# Altium footprint library footprints.PcbLib: 13 footprints
Each footprint in its own frame and in the unit in brackets; x right, y up, seen from the top. Pads: shape width x height; smd on the part's side, far side on the other; paste and mask are expansions set on the pad; w line width, h text height; cw(c..) or ccw(c..) is an arc to the next point about the centre after c.
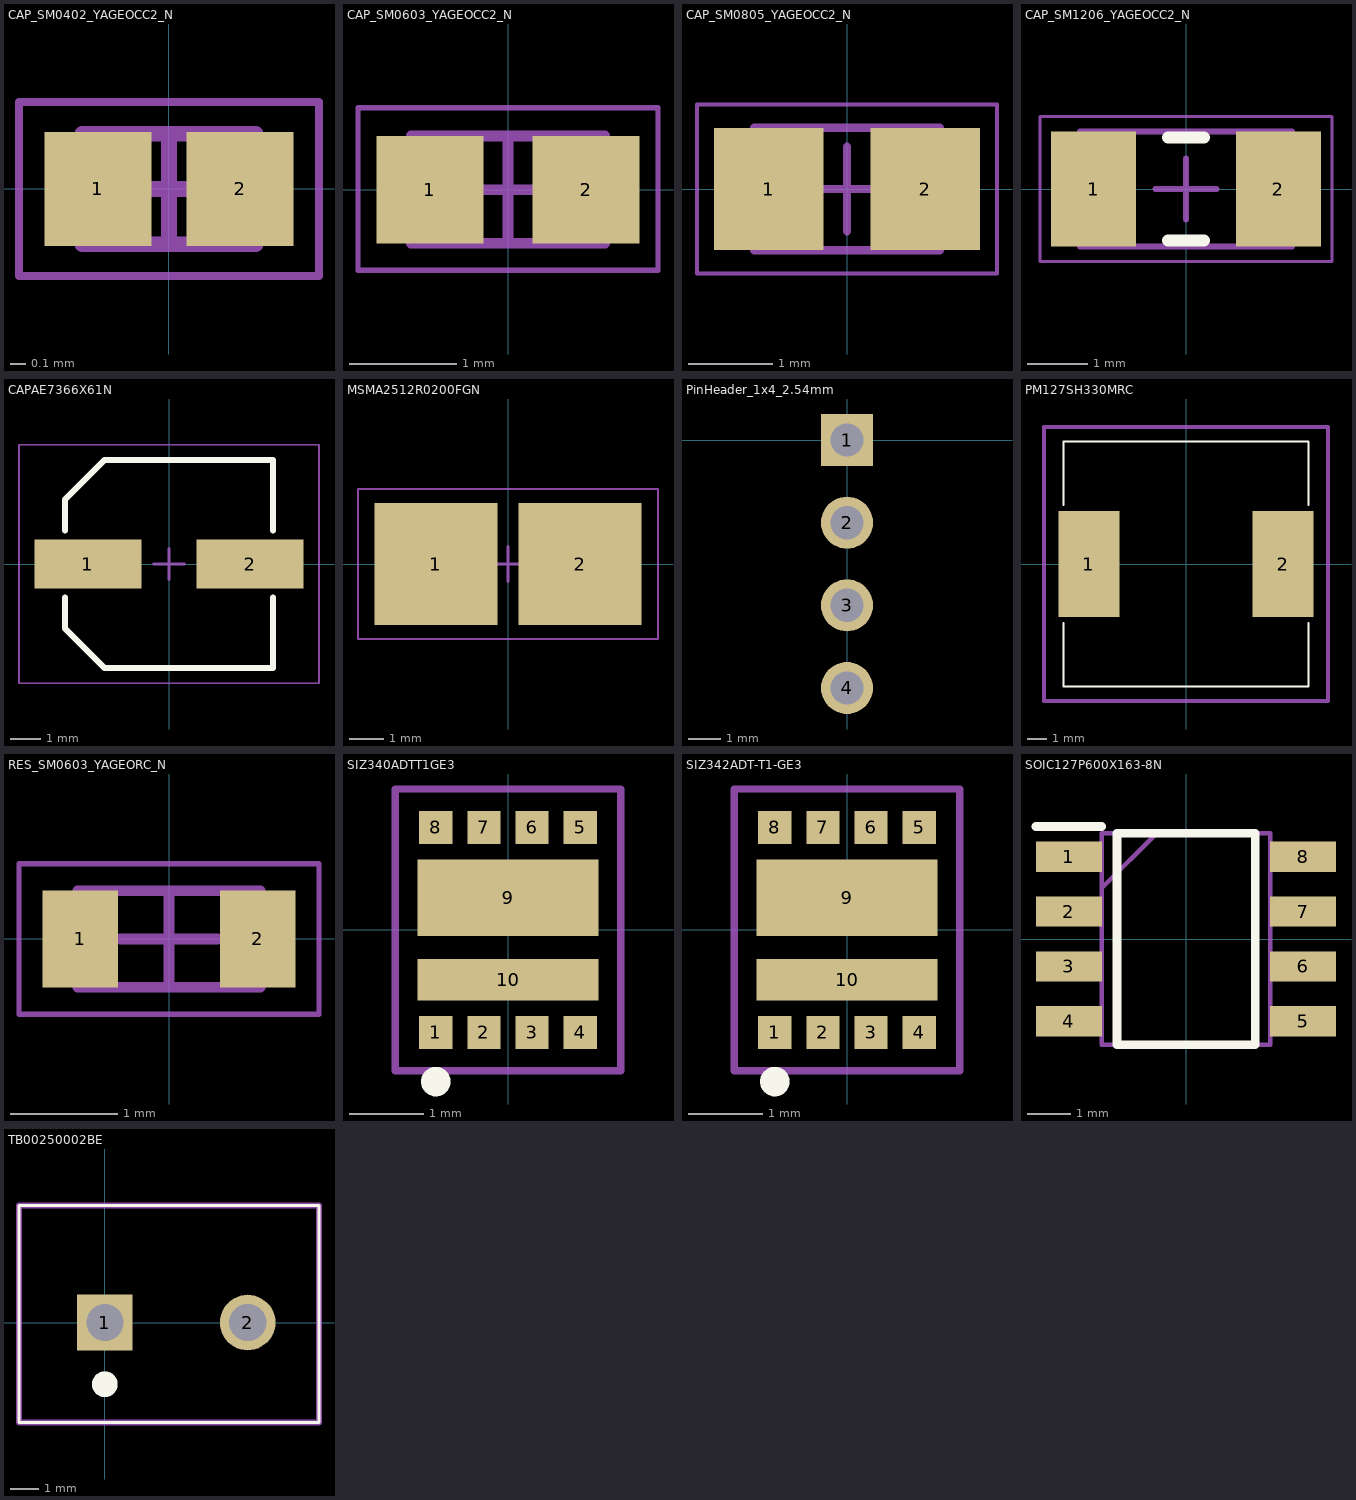
[diagram p0: the footprints below, top view; thin cyan lines are the x and y axes]

## CAP_SM0402_YAGEOCC2_N [mm] "Capacitor, Yageo CC Class2, SM0402, IPC Medium Density"
height 0.9
pads (2):
  rect 0.68x0.72 smd: 1(-0.45,0) 2(0.45,0)
Mechanical 13:
  lines w0.1: -0.55,-0.35 0.55,-0.35 0.55,0.35 -0.55,0.35 -0.55,-0.35
Mechanical 15:
  lines w0.05: -0.95,-0.55 0.95,-0.55 0.95,0.55 -0.95,0.55 -0.95,-0.55
  lines w0.1: -0.35,0 0.35,0 ; 0,-0.35 0,0.35
3D body: height 0.6, standoff 0, extent 0.3,-0.35 0.55,0.35
3D body: height 0.6, standoff 0, extent -0.55,-0.35 -0.3,0.35
3D body: height 0.6, standoff 0, extent -0.3,-0.35 0.3,0.35

## CAP_SM0603_YAGEOCC2_N [mm] "Capacitor, Yageo CC Class2, SM0603, IPC Medium Density"
height 0.9
pads (2):
  rect 1x1 smd: 1(-0.727,0) 2(0.727,0)
Mechanical 13:
  lines w0.1: -0.9,-0.5 0.9,-0.5 0.9,0.5 -0.9,0.5 -0.9,-0.5
Mechanical 15:
  lines w0.05: -1.397,-0.75 1.397,-0.75 1.397,0.762 -1.397,0.762 -1.397,-0.75
  lines w0.1: -0.5,0 0.5,0 ; 0,-0.5 0,0.5
3D body: height 0.9, standoff 0, extent 0.5,-0.5 0.9,0.5
3D body: height 0.9, standoff 0, extent -0.9,-0.5 -0.5,0.5
3D body: height 0.9, standoff 0, extent -0.5,-0.5 0.5,0.5

## CAP_SM0805_YAGEOCC2_N [mm] "Capacitor, Yageo CC Class2, SM0805, IPC Medium Density"
height 1.45
pads (2):
  rect 1.3x1.45 smd: 1(-0.927,0) 2(0.927,0)
Mechanical 13:
  lines w0.1: -1.1,-0.725 -1.1,0.725 1.1,0.725 1.1,-0.725 -1.1,-0.725
Mechanical 15:
  lines w0.05: -1.778,-1 -1.778,1 1.778,1 1.778,-1 -1.778,-1
  lines w0.1: -0.5,0 0.5,0 ; 0,-0.5 0,0.5
3D body: height 1.45, standoff 0, extent -0.6,-0.725 0.6,0.725
3D body: height 1.45, standoff 0, extent -1.1,-0.725 -0.6,0.725
3D body: height 1.45, standoff 0, extent 0.6,-0.725 1.1,0.725

## CAP_SM1206_YAGEOCC2_N [mm] "Capacitor, Yageo CC Class2, SM1206, IPC Medium Density"
height 1.8
pads (2):
  rect 1.4x1.9 smd: 1(-1.527,0) 2(1.527,0)
Top Overlay:
  lines w0.2: -0.3,-0.85 0.3,-0.85 ; -0.3,0.85 0.3,0.85
Mechanical 13:
  lines w0.1: -1.75,-0.95 -1.75,0.95 1.75,0.95 1.75,-0.95 -1.75,-0.95
Mechanical 15:
  lines w0.05: -2.413,-1.2 -2.413,1.2 2.413,1.2 2.413,-1.2 -2.413,-1.2
  lines w0.1: -0.5,0 0.5,0 ; 0,-0.5 0,0.5
3D body: height 1.8, standoff 0, extent -1.25,-0.95 1.25,0.95
3D body: height 1.8, standoff 0, extent -1.75,-0.95 -1.25,0.95
3D body: height 1.8, standoff 0, extent 1.25,-0.95 1.75,0.95

## CAPAE7366X61N [mm] "Aluminum Electrolytic Capacitor, Body 6,60x6,60x6,10mm, IPC Medium Density"
height 6.1
pads (2):
  rect 3.5x1.6 smd: 1(-2.65,0) 2(2.65,0)
Top Overlay:
  lines w0.2: -3.4,-1.1 -3.4,-2.1 -2.1,-3.4 3.4,-3.4 3.4,-1.1 ; -3.4,1.1 -3.4,2.1 -2.1,3.4 3.4,3.4 3.4,1.1
Mechanical 15:
  lines w0.05: -4.9,-3.9 -4.9,3.9 4.9,3.9 4.9,-3.9 -4.9,-3.9
  lines w0.1: -0.5,0 0.5,0 ; 0,-0.5 0,0.5
3D body "EEE-FK1E470P.stp": height 5.8, standoff 0, extent -3.683,-3.3 3.617,3.3

## MSMA2512R0200FGN [mm]
height 0.62
pads (2):
  rect 3.55x3.5 smd: 1(-2.075,0) 2(2.075,0)
Mechanical 15:
  lines w0.05: -4.318,-2.159 4.318,-2.159 4.318,2.159 -4.318,2.159 -4.318,-2.159
  lines w0.1: -0.5,0 0.5,0 ; 0,-0.5 0,0.5
3D body: height 0.62, standoff 0, extent 0.7,-1.7 3.3,1.7
3D body: height 0.62, standoff 0, extent -3.3,-1.7 -0.7,1.7
3D body: height 0.62, standoff 0, extent -0.7,-1.7 0.7,1.7

## PinHeader_1x4_2.54mm [mm]
pads (4):
  rect 1.6x1.6 hole 1.02: 1(0,0)
  round 1.6 hole 1.02: 2(0,-2.54) 3(0,-5.08) 4(0,-7.62)

## PM127SH330MRC [mm]
pads (2):
  rect 3.1x5.4 smd: 1(-4.95,0) 2(4.95,0)
Top Overlay:
  lines w0.1: -6.25,-3 -6.25,-6.25 6.25,-6.25 6.25,-3 ; -6.25,3 -6.25,6.25 6.25,6.25 6.25,3
Mechanical 15:
  lines w0.2: -7.239,-6.985 -7.239,6.985 7.239,6.985 7.239,-6.985 -7.239,-6.985
3D body "PM127SH-330M-RC.stp": height 8.1, standoff 0, extent -6.25,-6.25 6.25,6.25

## RES_SM0603_YAGEORC_N [mm] "Resistor, Yageo RC_L, SM0603, IPC Medium Density"
height 0.55
pads (2):
  rect 0.7x0.9 smd: 1(-0.827,0) 2(0.827,0)
Mechanical 13:
  lines w0.1: -0.85,-0.45 0.85,-0.45 0.85,0.45 -0.85,0.45 -0.85,-0.45
Mechanical 15:
  lines w0.05: -1.397,-0.7 1.397,-0.7 1.397,0.7 -1.397,0.7 -1.397,-0.7
  lines w0.1: -0.45,0 0.45,0 ; 0,-0.45 0,0.45
3D body: height 0.55, standoff 0, extent 0.6,-0.45 0.85,0.45
3D body: height 0.55, standoff 0, extent -0.85,-0.45 -0.6,0.45
3D body: height 0.55, standoff 0, extent -0.6,-0.45 0.6,0.45

## SIZ340ADTT1GE3 [mm]
pads (10):
  rect 0.45x0.45 smd: 1(-0.975,-1.386) 2(-0.325,-1.386) 3(0.325,-1.386) 4(0.975,-1.386) 5(0.975,1.386) 6(0.325,1.386) 7(-0.325,1.386) 8(-0.975,1.386)
  rect 2.45x1.036 smd: 9(0,0.434)
  rect 2.45x0.562 smd: 10(0,-0.671)
Top Overlay:
  circle w0.2: c-0.975,-2.05 r0.1
  lines w0.1: -0.975,-2.1 ccw(c-0.975,-2.05) -0.975,-2
Mechanical 15:
  lines w0.1: -1.524,-1.905 1.524,-1.905 1.524,1.905 -1.524,1.905 -1.524,-1.905
3D body "SIZ340ADT-T1-GE3.stp": height 0.9, standoff 0, extent -1.489,-1.564 1.511,1.568

## SIZ342ADT-T1-GE3 [mm]
pads (10):
  rect 0.45x0.45 smd: 1(-0.975,-1.386) 2(-0.325,-1.386) 3(0.325,-1.386) 4(0.975,-1.386) 5(0.975,1.386) 6(0.325,1.386) 7(-0.325,1.386) 8(-0.975,1.386)
  rect 2.45x1.036 smd: 9(0,0.434)
  rect 2.45x0.562 smd: 10(0,-0.671)
Top Overlay:
  circle w0.2: c-0.975,-2.05 r0.1
  lines w0.1: -0.975,-2.1 ccw(c-0.975,-2.05) -0.975,-2
Mechanical 15:
  lines w0.1: -1.524,-1.905 -1.524,1.905 1.524,1.905 1.524,-1.905 -1.524,-1.905
3D body "SIZ340ADT-T1-GE3.stp": height 0.9, standoff 0, extent -1.489,-1.564 1.511,1.568

## SOIC127P600X163-8N [mm]
pads (8):
  rect 1.525x0.7 smd: 1(-2.712,1.905) 2(-2.712,0.635) 3(-2.712,-0.635) 4(-2.712,-1.905) 5(2.712,-1.905) 6(2.712,-0.635) 7(2.712,0.635) 8(2.712,1.905)
Top Overlay:
  lines w0.2: -3.475,2.605 -1.95,2.605 ; -1.6,-2.45 1.6,-2.45 1.6,2.45 -1.6,2.45 -1.6,-2.45
Mechanical 15:
  lines w0.1: -1.95,1.18 -0.68,2.45 ; -1.95,-2.45 1.95,-2.45 1.95,2.45 -1.95,2.45 -1.95,-2.45
3D body "MIC4605-2YM-TR.stp": height 1.63, standoff 0, extent -2.997,-2.45 2.997,2.45

## TB00250002BE [mm]
pads (2):
  rect 1.95x1.95 hole 1.3: 1(0,0)
  round 1.95 hole 1.3: 2(5,0)
Top Overlay:
  circle w0.5: c0,-2.159 r0.2
  lines w0.1: -3.004,-3.5 7.496,-3.5 7.496,4.1 -3.004,4.1 -3.004,-3.5
Mechanical 1:
  lines w0.2: -3.004,-3.5 7.496,-3.5 7.496,4.1 -3.004,4.1 -3.004,-3.5
3D body "TB002-500-02BE.stp": height 10, standoff -4.35, extent -2.964,-3.536 7.536,4.064